# EAGLE library part 9012-26 (library con-WuP)
SMT-Buchsenleiste RM 1,27mm, liegend
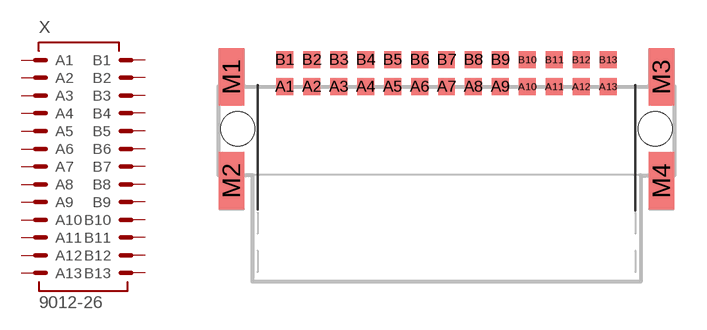
[diagram p13: symbol with the pads of 9012-26; footprint 9012-26]

Designator prefix X

## 9012-26 (MPN: 9012-26; SUPPLIER: W+P)  [9012-26]
A1  A1  pas
A2  A2  pas
A3  A3  pas
A4  A4  pas
A5  A5  pas
A6  A6  pas
A7  A7  pas
A8  A8  pas
A9  A9  pas
A10  A10  pas
A11  A11  pas
A12  A12  pas
A13  A13  pas
B1  B1  pas
B2  B2  pas
B3  B3  pas
B4  B4  pas
B5  B5  pas
B6  B6  pas
B7  B7  pas
B8  B8  pas
B9  B9  pas
B10  B10  pas
B11  B11  pas
B12  B12  pas
B13  B13  pas

## Footprint 9012-26 (pad centres in mm)
smd 0.8 x 0.8: A1 -7.62,2; A2 -6.35,2; A3 -5.08,2; A4 -3.81,2; A5 -2.54,2; A6 -1.27,2; A7 0,2; A8 1.27,2; A9 2.54,2; A10 3.81,2; A11 5.08,2; A12 6.35,2; A13 7.62,2; B1 -7.62,3.27; B2 -6.35,3.27; B3 -5.08,3.27; B4 -3.81,3.27; B5 -2.54,3.27; B6 -1.27,3.27; B7 0,3.27; B8 1.27,3.27; B9 2.54,3.27; B10 3.81,3.27; B11 5.08,3.27; B12 6.35,3.27; B13 7.62,3.27
smd 1.2 x 2.7: M1 -10.13,2.45; M2 -10.13,-2.45; M3 10.13,2.45; M4 10.13,-2.45
hole 1.6 at -9.83,0
hole 1.6 at 9.83,0